# Altium footprint library SOUND_SPEAKERS.PcbLib: 3 footprints
Each footprint in its own frame and in the unit in brackets; x right, y up, seen from the top. Pads: shape width x height; smd on the part's side, far side on the other; paste and mask are expansions set on the pad; w line width, h text height; cw(c..) or ccw(c..) is an arc to the next point about the centre after c.
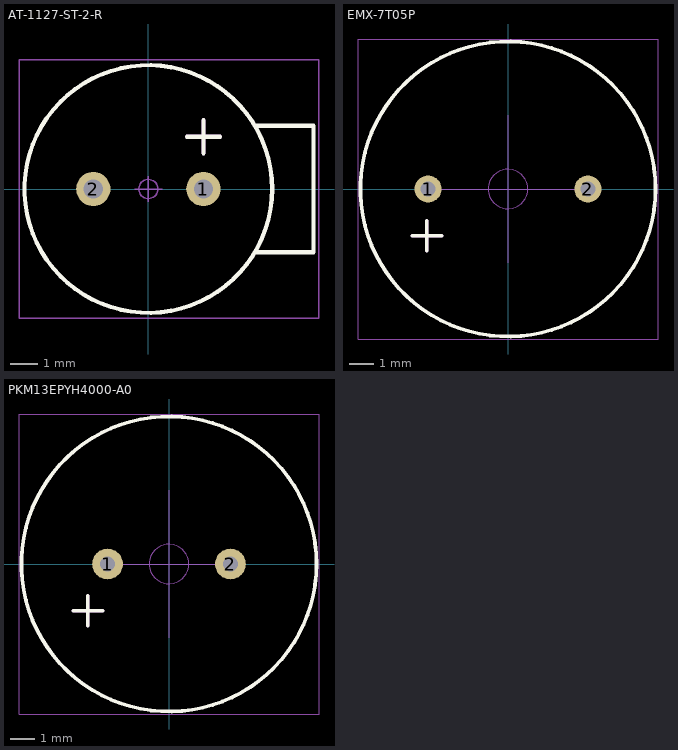
[diagram p0: the footprints below, top view; thin cyan lines are the x and y axes]

## AT-1127-ST-2-R [mm]
pads (2):
  round 1.25 hole 0.7: 1(2,0) 2(-2,0)
Top Overlay:
  circle w0.15: c0,0 r4.5
  lines w0.15: 1.4,1.9 2.6,1.9 ; 2,1.3 2,2.5 ; 3.9,-2.3 6,-2.3 6,2.3 3.9,2.3
Mechanical 14:
  circle w0.1: c0,0 r4.5
  lines w0.1: 3.9,-2.3 6,-2.3 6,2.3 3.9,2.3
  lines w0.15: 1.4,1.9 2.6,1.9 ; 2,1.3 2,2.5
  text ".Designator" at -1.2,-0.5 h1
Mechanical 15:
  circle w0.05: c0,0 r0.35
  lines w0.05: -0.5,0 0.5,0 ; 0,-0.46 0,0.46 ; -4.7,-4.7 -4.7,4.7 6.2,4.7 6.2,-4.7 -4.7,-4.7
3D body "AT-1127-ST-2-R.STEP": height 4.35, standoff -4.45, extent -4.5,-4.5 6,4.5

## EMX-7T05P [mm]
pads (2):
  round 1.1 hole 0.6: 1(-3.25,0) 2(3.25,0)
Top Overlay:
  circle w0.15: c0,0 r6
  lines w0.15: -3.9,-1.9 -2.7,-1.9 ; -3.3,-2.5 -3.3,-1.3
Mechanical 14:
  circle w0.1: c0,0 r6
  lines w0.15: -3.9,-1.9 -2.7,-1.9 ; -3.3,-2.5 -3.3,-1.3
  text ".Designator" at -1.5,-0.8 h1.5
Mechanical 15:
  circle w0.05: c0,0 r0.806
  lines w0.05: -3,0 3,0 ; 0,-3 0,3 ; -6.1,-6.1 -6.1,6.1 6.1,6.1 6.1,-6.1 -6.1,-6.1
3D body "CPT-1255C-090.stp": height 5.55, standoff -4.45, extent -6,-6 6,6

## PKM13EPYH4000-A0 [mm]
pads (2):
  round 1.25 hole 0.6: 1(-2.5,0) 2(2.5,0)
Top Overlay:
  circle w0.15: c0,0 r6
  lines w0.15: -3.9,-1.9 -2.7,-1.9 ; -3.3,-2.5 -3.3,-1.3
Mechanical 14:
  circle w0.1: c0,0 r6
  lines w0.15: -3.9,-1.9 -2.7,-1.9 ; -3.3,-2.5 -3.3,-1.3
  text ".Designator" at -1.5,-0.8 h1.5
Mechanical 15:
  circle w0.05: c0,0 r0.806
  lines w0.05: -3,0 3,0 ; 0,-3 0,3 ; -6.1,-6.1 6.1,-6.1 6.1,6.1 -6.1,6.1 -6.1,-6.1
3D body "CPT-1255C-090.stp": height 6.4, standoff -3.6, extent -6,-6 6,6